# EAGLE library part 74AVC1T45 (library laforge)
single-bit dual-supply bus transceiver with configurable voltage translation and 3-state outputs
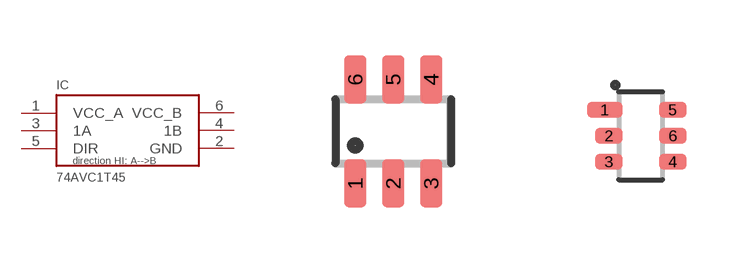
[diagram p44: symbol with the pads of SOT23-6; footprints SOT23-6, SOT363]

Designator prefix IC

## 74AVC1T45  [SOT23-6]
1  VCC_A  pwr
2  GND  pwr
3  1A
4  1B
5  DIR  in
6  VCC_B  pwr

## 74AVC1T45GW  [SOT363]
Pads as for SOT23-6

## Footprint SOT23-6 (pad centres in mm)
smd 0.55 x 1.2: 1 -0.95,-1.3; 2 0,-1.3; 3 0.95,-1.3; 4 0.95,1.3; 5 0,1.3; 6 -0.95,1.3

## Footprint SOT363 (pad centres in mm)
SC-88 or SOT363 or US6 or UMT6 or S-Mini6 or SC-70-6 https://www.nxp.com/docs/en/package-information/SOT363.pdf
smd 0.9 x 0.4: 1 -0.9,0.65
smd 0.7 x 0.4: 2 -0.8,0; 3 -0.8,-0.65; 4 0.8,-0.65; 5 0.8,0.65; 6 0.8,0